# Altium integrated library Lattice FPGA MachXO2.IntLib: 444 symbols (part 24 of 39)
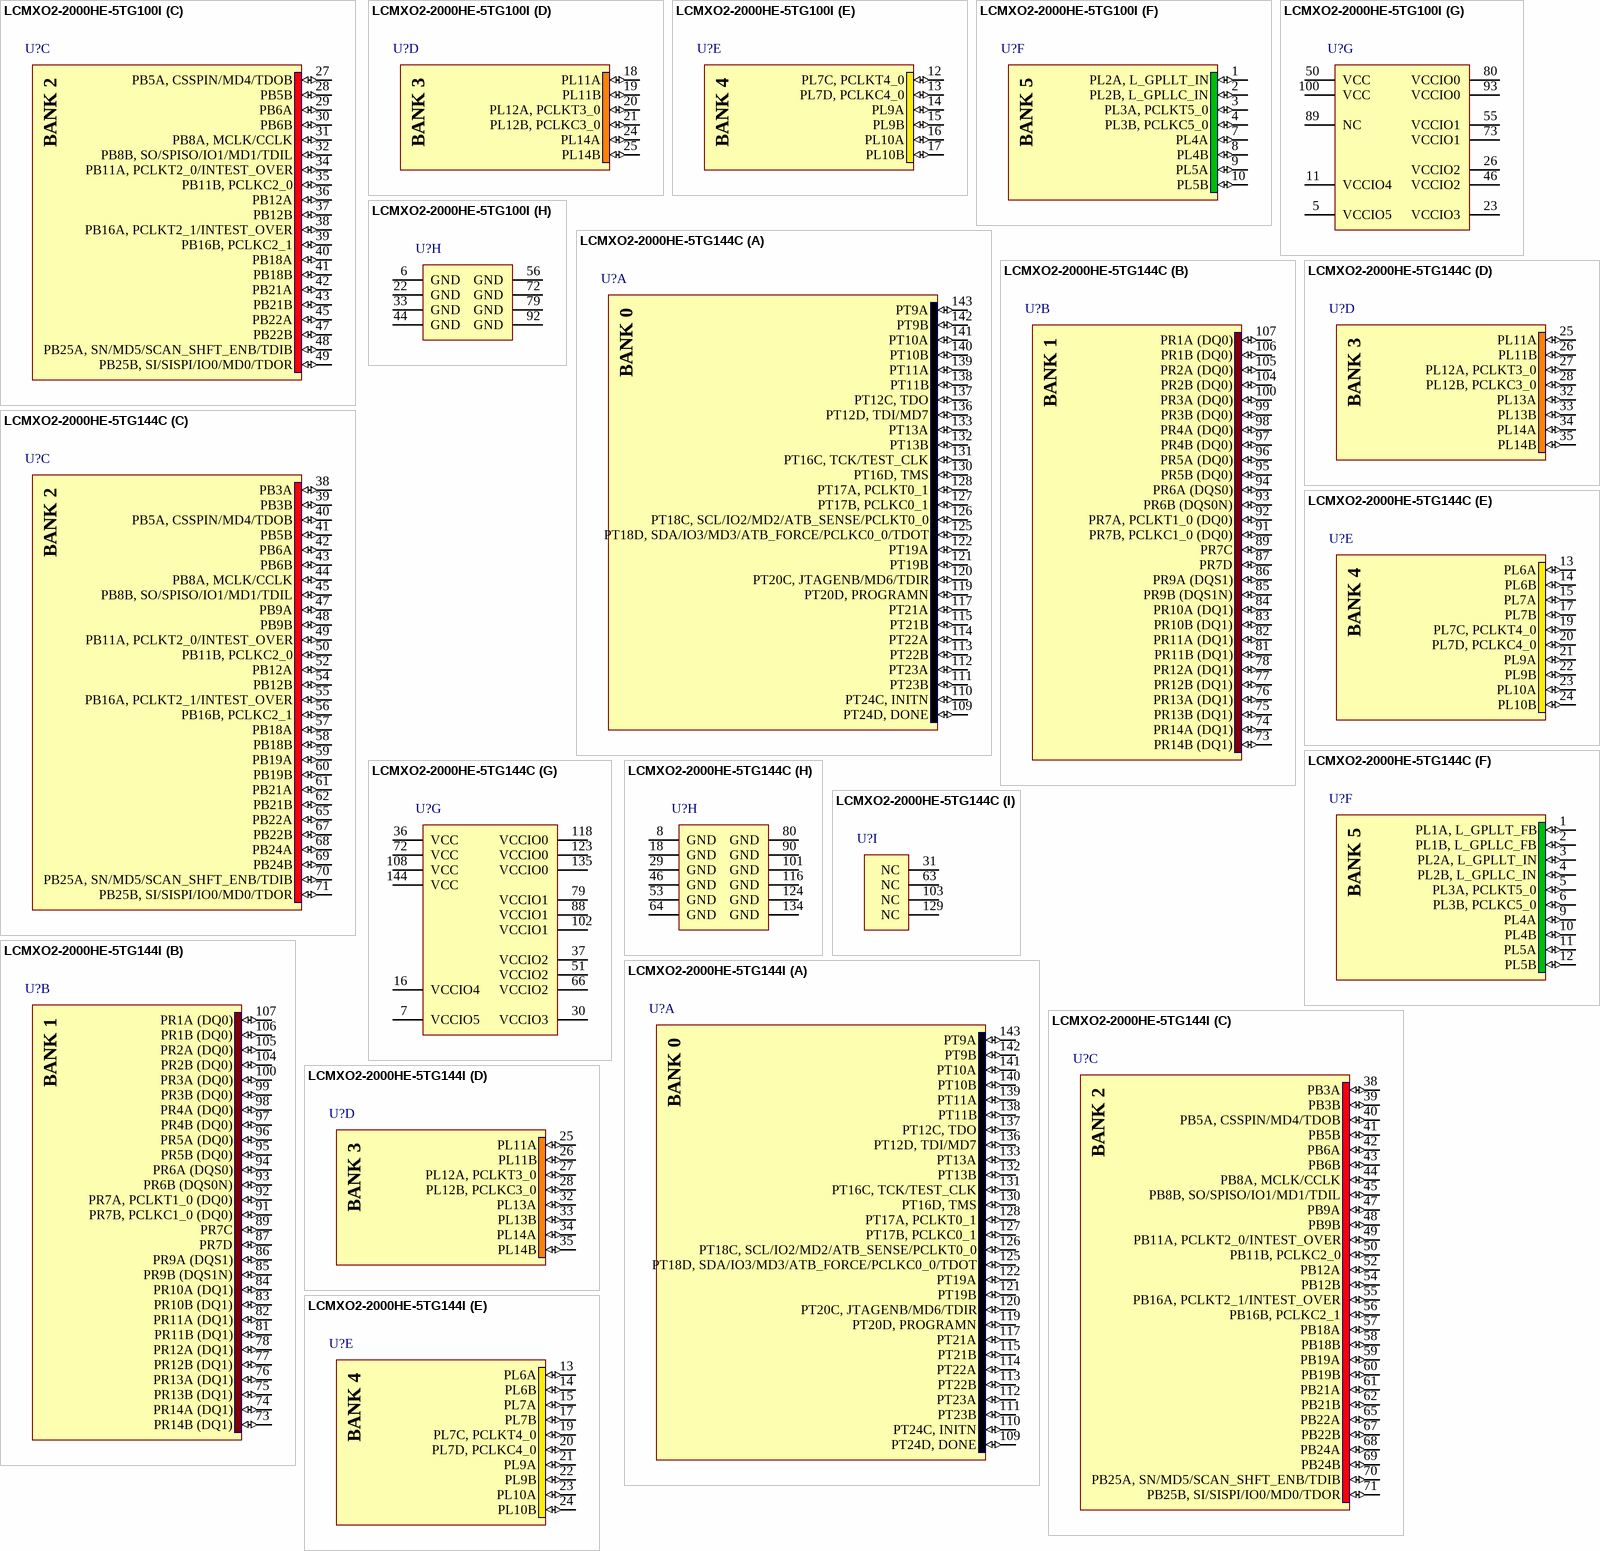
[diagram p435: symbols LCMXO2-2000HE-5TG100I to LCMXO2-2000HE-5TG144I]

## LCMXO2-2000HE-5TG144C
designator U?
MachXO2 High Performance CPLD with 2112 LUTs, 1.2V, 144-pin TQFP, Speed Grade-5, Commercial Grade, Halogen Free (RoHS); DatasheetVersion: ver01.5, Aug-2011; PackageVersion: ver02.8, Jul-2011; PackageReference: TQFP144; PackageDescription: 144-Pin Thin Quad Flat Pack (TQFP144); Code_JEDEC: MS-026-BFB; ComponentLink1Description: Manufacturer URL; ComponentLink1URL: http://www.latticesemi.com/; ComponentLink2Description: Datasheet; ComponentLink2URL: http://www.latticesemi.com/documents/DS1035.pdf; ComponentLink3Description: Package Specification; ComponentLink3URL: http://www.latticesemi.com/lit/docs/package/pkg.pdf
footprint TQFP144_N (Thin QFP, 144-Leads, Body 20x20mm, Pitch 0.5mm, IPC Medium Density)
footprint TQFP144_L (Thin QFP, 144-Leads, Body 20x20mm, Pitch 0.5mm, IPC High Density)
footprint TQFP144_M (Thin QFP, 144-Leads, Body 20x20mm, Pitch 0.5mm, IPC Low Density)
part A pins: 109 PT24D, DONE (io), 110 PT24C, INITN (io), 111 PT23B (io), 112 PT23A (io), 113 PT22B (io), 114 PT22A (io), 115 PT21B (io), 117 PT21A (io), 119 PT20D, PROGRAMN (io), 120 PT20C, JTAGENB/MD6/TDIR (io), 121 PT19B (io), 122 PT19A (io), 125 PT18D, SDA/IO3/MD3/ATB_FORCE/PCLKC0_0/TDOT (io), 126 PT18C, SCL/IO2/MD2/ATB_SENSE/PCLKT0_0 (io), 127 PT17B, PCLKC0_1 (io), 128 PT17A, PCLKT0_1 (io), 130 PT16D, TMS (io), 131 PT16C, TCK/TEST_CLK (io), 132 PT13B (io), 133 PT13A (io), 136 PT12D, TDI/MD7 (io), 137 PT12C, TDO (io), 138 PT11B (io), 139 PT11A (io), 140 PT10B (io), 141 PT10A (io), 142 PT9B (io), 143 PT9A (io)
part B pins: 73 PR14B (DQ1) (io), 74 PR14A (DQ1) (io), 75 PR13B (DQ1) (io), 76 PR13A (DQ1) (io), 77 PR12B (DQ1) (io), 78 PR12A (DQ1) (io), 81 PR11B (DQ1) (io), 82 PR11A (DQ1) (io), 83 PR10B (DQ1) (io), 84 PR10A (DQ1) (io), 85 PR9B (DQS1N) (io), 86 PR9A (DQS1) (io), 87 PR7D (io), 89 PR7C (io), 91 PR7B, PCLKC1_0 (DQ0) (io), 92 PR7A, PCLKT1_0 (DQ0) (io), 93 PR6B (DQS0N) (io), 94 PR6A (DQS0) (io), 95 PR5B (DQ0) (io), 96 PR5A (DQ0) (io), 97 PR4B (DQ0) (io), 98 PR4A (DQ0) (io), 99 PR3B (DQ0) (io), 100 PR3A (DQ0) (io), 104 PR2B (DQ0) (io), 105 PR2A (DQ0) (io), 106 PR1B (DQ0) (io), 107 PR1A (DQ0) (io)
part C pins: 38 PB3A (io), 39 PB3B (io), 40 PB5A, CSSPIN/MD4/TDOB (io), 41 PB5B (io), 42 PB6A (io), 43 PB6B (io), 44 PB8A, MCLK/CCLK (io), 45 PB8B, SO/SPISO/IO1/MD1/TDIL (io), 47 PB9A (io), 48 PB9B (io), 49 PB11A, PCLKT2_0/INTEST_OVER (io), 50 PB11B, PCLKC2_0 (io), 52 PB12A (io), 54 PB12B (io), 55 PB16A, PCLKT2_1/INTEST_OVER (io), 56 PB16B, PCLKC2_1 (io), 57 PB18A (io), 58 PB18B (io), 59 PB19A (io), 60 PB19B (io), 61 PB21A (io), 62 PB21B (io), 65 PB22A (io), 67 PB22B (io), 68 PB24A (io), 69 PB24B (io), 70 PB25A, SN/MD5/SCAN_SHFT_ENB/TDIB (io), 71 PB25B, SI/SISPI/IO0/MD0/TDOR (io)
part D pins: 25 PL11A (io), 26 PL11B (io), 27 PL12A, PCLKT3_0 (io), 28 PL12B, PCLKC3_0 (io), 32 PL13A (io), 33 PL13B (io), 34 PL14A (io), 35 PL14B (io)
part E pins: 13 PL6A (io), 14 PL6B (io), 15 PL7A (io), 17 PL7B (io), 19 PL7C, PCLKT4_0 (io), 20 PL7D, PCLKC4_0 (io), 21 PL9A (io), 22 PL9B (io), 23 PL10A (io), 24 PL10B (io)
part F pins: 1 PL1A, L_GPLLT_FB (io), 2 PL1B, L_GPLLC_FB (io), 3 PL2A, L_GPLLT_IN (io), 4 PL2B, L_GPLLC_IN (io), 5 PL3A, PCLKT5_0 (io), 6 PL3B, PCLKC5_0 (io), 9 PL4A (io), 10 PL4B (io), 11 PL5A (io), 12 PL5B (io)
part G pins: 7 VCCIO5 (power), 16 VCCIO4 (power), 30 VCCIO3 (power), 36 VCC (power), 37 VCCIO2 (power), 51 VCCIO2 (power), 66 VCCIO2 (power), 72 VCC (power), 79 VCCIO1 (power), 88 VCCIO1 (power), 102 VCCIO1 (power), 108 VCC (power), 118 VCCIO0 (power), 123 VCCIO0 (power), 135 VCCIO0 (power), 144 VCC (power)
part H pins: 8 GND (power), 18 GND (power), 29 GND (power), 46 GND (power), 53 GND (power), 64 GND (power), 80 GND (power), 90 GND (power), 101 GND (power), 116 GND (power), 124 GND (power), 134 GND (power)
part I pins: 31 NC, 63 NC, 103 NC, 129 NC
part A text: BANK 0
part B text: BANK 1
part C text: BANK 2
part D text: BANK 3
part E text: BANK 4
part F text: BANK 5

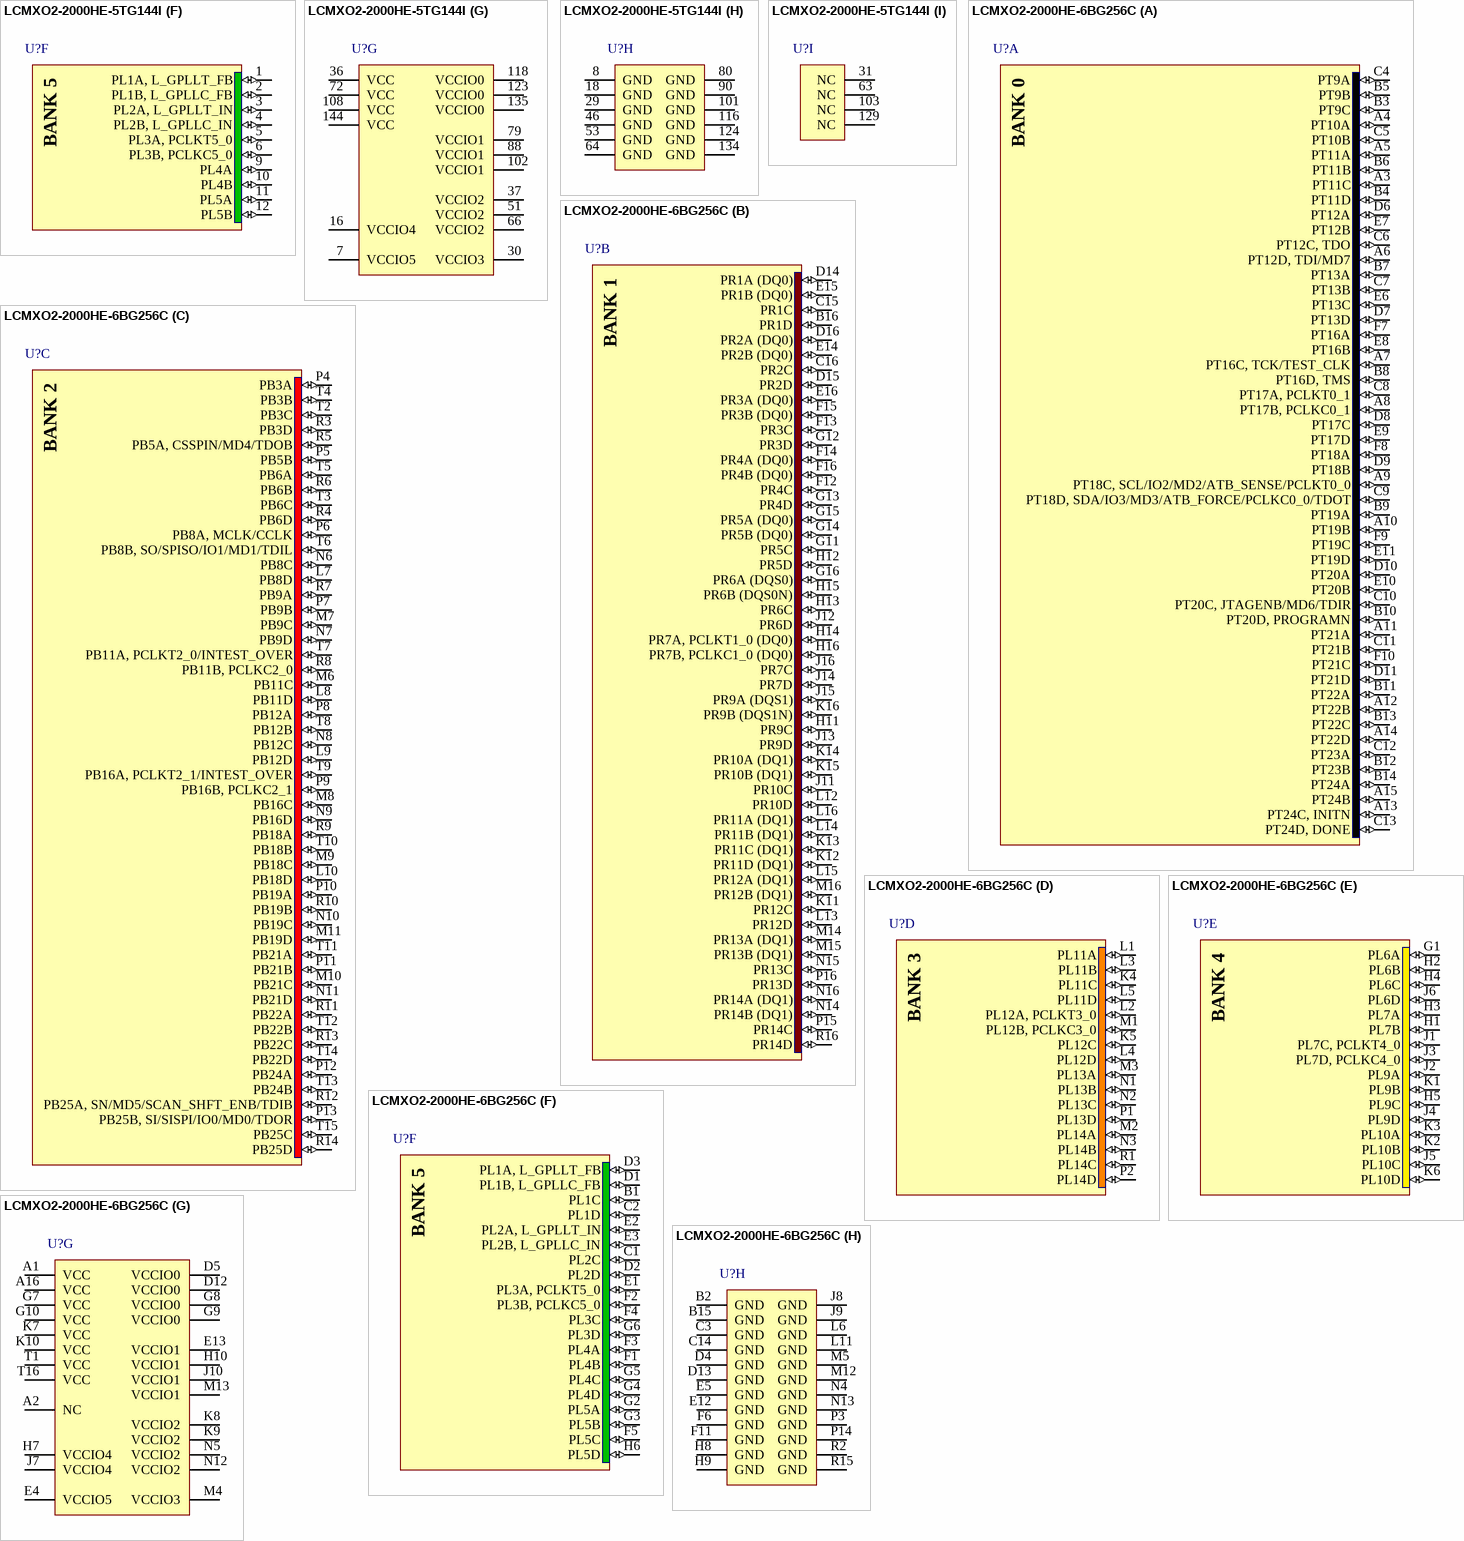
[diagram p92: symbols LCMXO2-2000HE-5TG144I to LCMXO2-2000HE-6BG256C]

## LCMXO2-2000HE-5TG144I
designator U?
MachXO2 High Performance CPLD with 2112 LUTs, 1.2V, 144-pin TQFP, Speed Grade-5, Industrial Grade, Halogen Free (RoHS); DatasheetVersion: ver01.5, Aug-2011; PackageVersion: ver02.8, Jul-2011; PackageReference: TQFP144; PackageDescription: 144-Pin Thin Quad Flat Pack (TQFP144); Code_JEDEC: MS-026-BFB; ComponentLink1Description: Manufacturer URL; ComponentLink1URL: http://www.latticesemi.com/; ComponentLink2Description: Datasheet; ComponentLink2URL: http://www.latticesemi.com/documents/DS1035.pdf; ComponentLink3Description: Package Specification; ComponentLink3URL: http://www.latticesemi.com/lit/docs/package/pkg.pdf
footprint TQFP144_N (Thin QFP, 144-Leads, Body 20x20mm, Pitch 0.5mm, IPC Medium Density)
footprint TQFP144_L (Thin QFP, 144-Leads, Body 20x20mm, Pitch 0.5mm, IPC High Density)
footprint TQFP144_M (Thin QFP, 144-Leads, Body 20x20mm, Pitch 0.5mm, IPC Low Density)
part A pins: 109 PT24D, DONE (io), 110 PT24C, INITN (io), 111 PT23B (io), 112 PT23A (io), 113 PT22B (io), 114 PT22A (io), 115 PT21B (io), 117 PT21A (io), 119 PT20D, PROGRAMN (io), 120 PT20C, JTAGENB/MD6/TDIR (io), 121 PT19B (io), 122 PT19A (io), 125 PT18D, SDA/IO3/MD3/ATB_FORCE/PCLKC0_0/TDOT (io), 126 PT18C, SCL/IO2/MD2/ATB_SENSE/PCLKT0_0 (io), 127 PT17B, PCLKC0_1 (io), 128 PT17A, PCLKT0_1 (io), 130 PT16D, TMS (io), 131 PT16C, TCK/TEST_CLK (io), 132 PT13B (io), 133 PT13A (io), 136 PT12D, TDI/MD7 (io), 137 PT12C, TDO (io), 138 PT11B (io), 139 PT11A (io), 140 PT10B (io), 141 PT10A (io), 142 PT9B (io), 143 PT9A (io)
part B pins: 73 PR14B (DQ1) (io), 74 PR14A (DQ1) (io), 75 PR13B (DQ1) (io), 76 PR13A (DQ1) (io), 77 PR12B (DQ1) (io), 78 PR12A (DQ1) (io), 81 PR11B (DQ1) (io), 82 PR11A (DQ1) (io), 83 PR10B (DQ1) (io), 84 PR10A (DQ1) (io), 85 PR9B (DQS1N) (io), 86 PR9A (DQS1) (io), 87 PR7D (io), 89 PR7C (io), 91 PR7B, PCLKC1_0 (DQ0) (io), 92 PR7A, PCLKT1_0 (DQ0) (io), 93 PR6B (DQS0N) (io), 94 PR6A (DQS0) (io), 95 PR5B (DQ0) (io), 96 PR5A (DQ0) (io), 97 PR4B (DQ0) (io), 98 PR4A (DQ0) (io), 99 PR3B (DQ0) (io), 100 PR3A (DQ0) (io), 104 PR2B (DQ0) (io), 105 PR2A (DQ0) (io), 106 PR1B (DQ0) (io), 107 PR1A (DQ0) (io)
part C pins: 38 PB3A (io), 39 PB3B (io), 40 PB5A, CSSPIN/MD4/TDOB (io), 41 PB5B (io), 42 PB6A (io), 43 PB6B (io), 44 PB8A, MCLK/CCLK (io), 45 PB8B, SO/SPISO/IO1/MD1/TDIL (io), 47 PB9A (io), 48 PB9B (io), 49 PB11A, PCLKT2_0/INTEST_OVER (io), 50 PB11B, PCLKC2_0 (io), 52 PB12A (io), 54 PB12B (io), 55 PB16A, PCLKT2_1/INTEST_OVER (io), 56 PB16B, PCLKC2_1 (io), 57 PB18A (io), 58 PB18B (io), 59 PB19A (io), 60 PB19B (io), 61 PB21A (io), 62 PB21B (io), 65 PB22A (io), 67 PB22B (io), 68 PB24A (io), 69 PB24B (io), 70 PB25A, SN/MD5/SCAN_SHFT_ENB/TDIB (io), 71 PB25B, SI/SISPI/IO0/MD0/TDOR (io)
part D pins: 25 PL11A (io), 26 PL11B (io), 27 PL12A, PCLKT3_0 (io), 28 PL12B, PCLKC3_0 (io), 32 PL13A (io), 33 PL13B (io), 34 PL14A (io), 35 PL14B (io)
part E pins: 13 PL6A (io), 14 PL6B (io), 15 PL7A (io), 17 PL7B (io), 19 PL7C, PCLKT4_0 (io), 20 PL7D, PCLKC4_0 (io), 21 PL9A (io), 22 PL9B (io), 23 PL10A (io), 24 PL10B (io)
part F pins: 1 PL1A, L_GPLLT_FB (io), 2 PL1B, L_GPLLC_FB (io), 3 PL2A, L_GPLLT_IN (io), 4 PL2B, L_GPLLC_IN (io), 5 PL3A, PCLKT5_0 (io), 6 PL3B, PCLKC5_0 (io), 9 PL4A (io), 10 PL4B (io), 11 PL5A (io), 12 PL5B (io)
part G pins: 7 VCCIO5 (power), 16 VCCIO4 (power), 30 VCCIO3 (power), 36 VCC (power), 37 VCCIO2 (power), 51 VCCIO2 (power), 66 VCCIO2 (power), 72 VCC (power), 79 VCCIO1 (power), 88 VCCIO1 (power), 102 VCCIO1 (power), 108 VCC (power), 118 VCCIO0 (power), 123 VCCIO0 (power), 135 VCCIO0 (power), 144 VCC (power)
part H pins: 8 GND (power), 18 GND (power), 29 GND (power), 46 GND (power), 53 GND (power), 64 GND (power), 80 GND (power), 90 GND (power), 101 GND (power), 116 GND (power), 124 GND (power), 134 GND (power)
part I pins: 31 NC, 63 NC, 103 NC, 129 NC
part A text: BANK 0
part B text: BANK 1
part C text: BANK 2
part D text: BANK 3
part E text: BANK 4
part F text: BANK 5